# Altium footprint library SeniorProjectLibrary.PcbLib: 16 footprints
Each footprint in its own frame and in the unit in brackets; x right, y up, seen from the top. Pads: shape width x height; smd on the part's side, far side on the other; paste and mask are expansions set on the pad; w line width, h text height; cw(c..) or ccw(c..) is an arc to the next point about the centre after c.
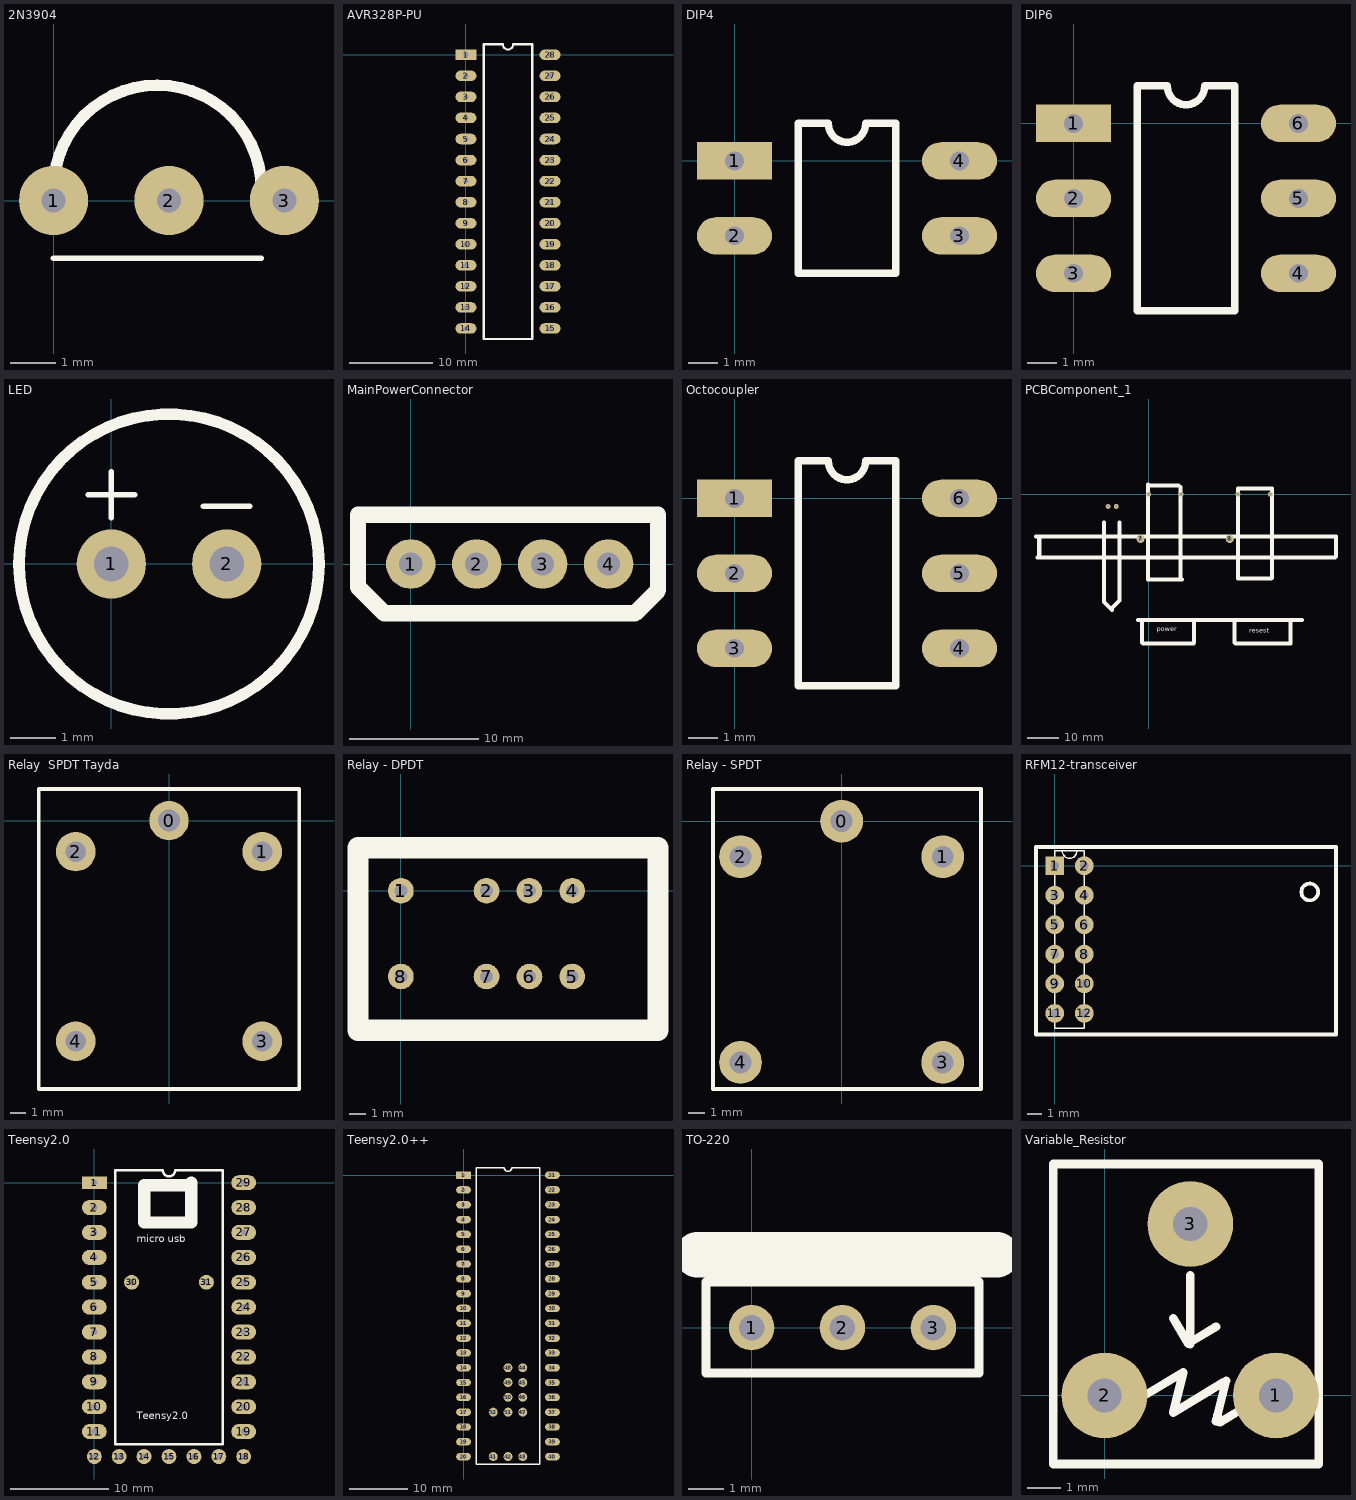
[diagram p0: the footprints below, top view; thin cyan lines are the x and y axes]

## 2N3904 [mil] "simple transistor, but bigger holes and pads"
pads (3):
  round 60 hole 21: 1(0,0) 2(100,0) 3(200,0)
Top Overlay:
  lines w5: 0,-50 180,-50
  lines w10: 0,10 cw(c90,10) 180,10

## AVR328P-PU [mil] "ATMega328P-PU"
pads (28):
  rect 100x50 hole 25: 1(0,0)
  oval 100x50 hole 25: 2(0,-100) 3(0,-200) 4(0,-300) 5(0,-400) 6(0,-500) 7(0,-600) 8(0,-700) 9(0,-800) 10(0,-900) 11(0,-1000) 12(0,-1100) 13(0,-1200) 14(0,-1300) 15(400,-1300) 16(400,-1200) 17(400,-1100) 18(400,-1000) 19(400,-900) 20(400,-800) 21(400,-700) 22(400,-600) 23(400,-500) 24(400,-400) 25(400,-300) 26(400,-200) 27(400,-100) 28(400,0)
Top Overlay:
  lines w10: 85,-1350 315,-1350 315,50 225,50 cw(c200,50) 175,50 85,50 85,-1350

## DIP4 [mil]
pads (4):
  rect 100x50 hole 25: 1(0,0)
  oval 100x50 hole 25: 2(0,-100) 3(300,-100) 4(300,0)
Top Overlay:
  lines w10: 85,-150 85,50 125,50 ccw(c150,50) 175,50 215,50 215,-150 85,-150

## DIP6 [mil]
pads (6):
  rect 100x50 hole 25: 1(0,0)
  oval 100x50 hole 25: 2(0,-100) 3(0,-200) 4(300,-200) 5(300,-100) 6(300,0)
Top Overlay:
  lines w10: 85,-250 215,-250 215,50 175,50 cw(c150,50) 125,50 85,50 85,-250

## LED [mil] "standard 5mm LED"
pads (2):
  round 60 hole 30: 1(0,0) 2(100,0)
Top Overlay:
  circle w10: c50,0 r130
  lines w5: -20,60 20,60 ; 0,40 0,80 ; 80,50 120,50

## MainPowerConnector [mil]
pads (4):
  round 150 hole 70: 1(0,0) 2(200,0) 3(400,0) 4(600,0)
Top Overlay:
  lines w50: -160,-70 -80,-150 680,-150 750,-80 750,150 -160,150 -160,-70

## Octocoupler [mil]
pads (6):
  rect 100x50 hole 25: 1(0,0)
  oval 100x50 hole 25: 2(0,-100) 3(0,-200) 4(300,-200) 5(300,-100) 6(300,0)
Top Overlay:
  lines w10: 85,-250 85,50 125,50 ccw(c150,50) 175,50 215,50 215,-250 85,-250

## PCBComponent_1 [mil]
pads (8):
  round 60 hole 30: 1(0,0) 2(400,0) 3(1100,0) 4(1500,0) 5(-500,-150) 6(-400,-150)
  round 100 hole 50: 7(-100,-550) 8(1000,-550)
Top Overlay:
  lines w50: -1390,-520 2310,-520 2310,-770 2300,-780 -1370,-780 -1350,-760 -1350,-540 ; -550,-350 -550,-1330 -450,-1430 -450,-1400 -360,-1310 -360,-350 ; -130,-1550 1890,-1550 ; -80,-1570 -80,-1830 -70,-1840 550,-1840 560,-1830 560,-1570 ; -10,110 370,110 390,90 390,-1030 410,-1050 -10,-1050 -10,120 ; 1060,-1560 1060,-1830 1070,-1840 1750,-1840 1750,-1580 ; 1100,70 1100,-1040 1510,-1040 1520,-1030 1520,70 1110,70
  text "resest" at 1240,-1710 h60
  text "power" at 100,-1690 h60

## Relay  SPDT Tayda [mm] "this is the ATTC-3372"
pads (5):
  round 2.54 hole 1.4: 0(0,0)
  round 2.54 hole 1.3: 1(6,-2) 2(-6,-2) 3(6,-14.2) 4(-6,-14.2)
Top Overlay:
  lines w0.254: -8.382,-17.272 -8.382,2.032 8.382,2.032 8.382,-17.272 -8.382,-17.272

## Relay - DPDT [mil]
pads (9):
  round 60 hole 30: 1(0,0) 1(0,0) 2(200,0) 3(300,0) 4(400,0) 5(400,-200) 6(300,-200) 7(200,-200) 8(0,-200)
Top Overlay:
  lines w50: -100,-325 600,-325 600,100 -100,100 -100,-325

## Relay - SPDT [mil] "this is the KLT1C6DC5"
pads (5):
  round 100 hole 51: 0(0,0) 1(236,-83) 2(-236,-83) 3(236,-563) 4(-236,-563)
Top Overlay:
  lines w10: -300,-625 325,-625 325,75 -300,75 -300,-625

## RFM12-transceiver [mm] "RFM12 433MHZ transceiver from www.futurlec.com"
pads (12):
  rect 1.27x1.27 hole 0.6: 1(0,0)
  round 1.27 hole 0.6: 2(2,0) 3(0,-2) 4(2,-2) 5(0,-4) 6(2,-4) 7(0,-6) 8(2,-6) 9(0,-8) 10(2,-8) 11(0,-10) 12(2,-10)
Top Overlay:
  circle w0.254: c17.272,-1.778 r0.568
  lines w0.1: 0.015,-11 0.015,1 1.5,1 cw(c1,1) 0.5,1 1.985,1 1.985,-11 0.015,-11
  lines w0.254: -1.27,-11.43 19.05,-11.43 19.05,1.27 -1.27,1.27 -1.27,-11.43

## Teensy2.0 [mil] "Regular Teensy 2.0"
pads (31):
  rect 100x50 hole 25: 1(0,0)
  oval 100x60 hole 25: 2(0,-100) 3(0,-200) 4(0,-300) 5(0,-400) 6(0,-500) 7(0,-600) 8(0,-700) 9(0,-800) 10(0,-900) 11(0,-1000) 19(600,-1000) 20(600,-900) 21(600,-800) 22(600,-700) 23(600,-600) 24(600,-500) 25(600,-400) 26(600,-300) 27(600,-200) 28(600,-100) 29(600,0)
  round 60 hole 25: 12(0,-1100) 13(100,-1100) 14(200,-1100) 15(300,-1100) 16(400,-1100) 17(500,-1100) 18(600,-1100) 30(150,-400) 31(450,-400)
Top Overlay:
  lines w10: 85,-1050 85,50 275,50 ccw(c300,50) 325,50 515,50 515,-1050 85,-1050
  lines w50: 200,-10 200,-160 390,-160 390,0 380,-10 210,-10
  text "micro usb" at 170,-240 h30
  text "Teensy2.0" at 170,-950 h30

## Teensy2.0++ [mil]
pads (52):
  rect 100x50 hole 25: 1(0,0)
  oval 100x50 hole 25: 2(0,-100) 3(0,-200) 4(0,-300) 5(0,-400) 6(0,-500) 7(0,-600) 8(0,-700) 9(0,-800) 10(0,-900) 11(0,-1000) 12(0,-1100) 13(0,-1200) 14(0,-1300) 15(0,-1400) 16(0,-1500) 17(0,-1600) 18(0,-1700) 19(0,-1800) 20(0,-1900) 21(600,0) 22(600,-100) 23(600,-200) 24(600,-300) 25(600,-400) 26(600,-500) 27(600,-600) 28(600,-700) 29(600,-800) 30(600,-900) 31(600,-1000) 32(600,-1100) 33(600,-1200) 34(600,-1300) 35(600,-1400) 36(600,-1500) 37(600,-1600) 38(600,-1700) 39(600,-1800) 40(600,-1900)
  round 60 hole 30: 41(200,-1900) 42(300,-1900) 43(400,-1900) 44(400,-1300) 45(400,-1400) 46(400,-1500) 47(400,-1600) 48(300,-1300) 49(300,-1400) 50(300,-1500) 51(300,-1600) 52(200,-1600)
Top Overlay:
  lines w10: 85,-1950 85,50 275,50 ccw(c300,50) 325,50 515,50 515,-1950 85,-1950

## TO-220 [mil] "Foot Print for a TO-220"
pads (3):
  round 50 hole 28: 1(0,0) 2(100,0) 3(200,0)
Top Overlay:
  lines w10: -50,-50 -50,50 250,50 250,-50 150,-50 -50,-50
  lines w50: -60,80 270,80

## Variable_Resistor [mil] "Tayda Variable Resistor"
height 165
pads (3):
  round 100 hole 40: 1(200,0) 2(0,0) 3(100,200)
Top Overlay:
  lines w10: 30,-10 80,20 91.76,27.06 80,-20 138.82,15.29 ; 80,90 97.65,60.59 ; 100,140 100,60 100.59,62.35 130,80 ; 130,-30 141.76,17.06 ; 131.76,-22.94 130.59,-27.65 132.35,-30.59 134.71,-31.18 170,-10 ; -60,-80 -60,270 250,270 250,0 250,-80 -60,-80